# Altium schematic symbol library encoder.SchLib: 15 symbols
Pins are listed as number, name and electrical type; pins without a type are passive.

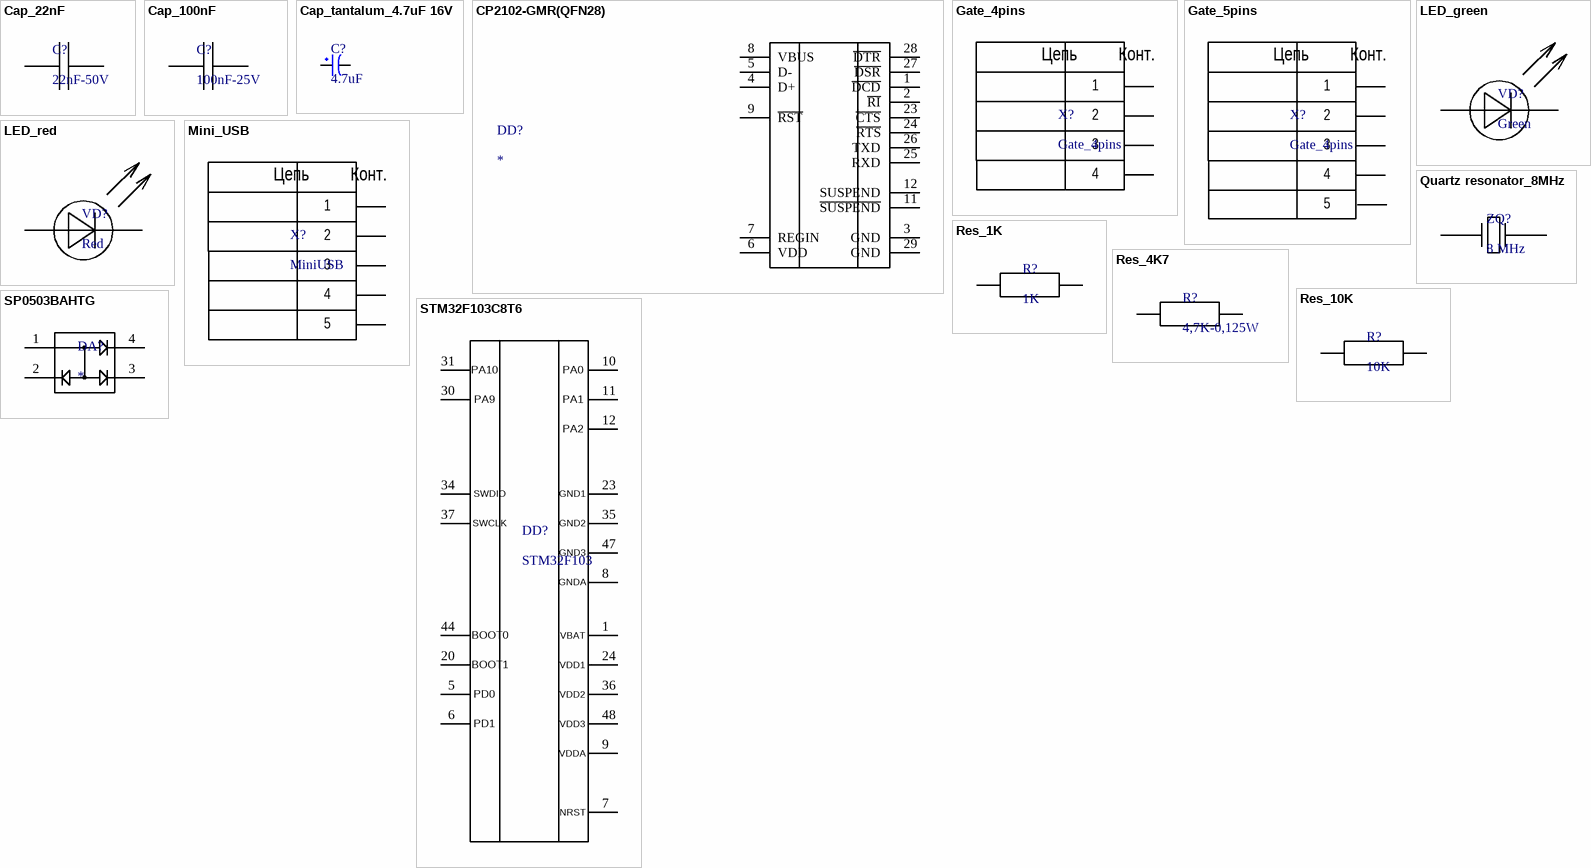
[diagram p0: symbols Cap_22nF to STM32F103C8T6]

## Cap_22nF
designator C?, comment 22nF-50V
footprint Cap Ceramic 0805 SMD (Reflow Soldering)
pins: 1, 2

## Cap_100nF
designator C?, comment 100nF-25V
footprint Cap Ceramic 0603 SMD (Reflow Soldering)
pins: 1, 2

## Cap_tantalum_4.7uF 16V
designator C?, comment 4.7uF
SMD; Chung_Loai: Dán; Don_Vi: Con; So_Chan: 2; Ten_Linh_Kien: Tụ tantalum 475C-4.7uF 16V SMD3216; Ma_Hang: MH008686; Kieu_Chan: *
footprint cap tantalum  smd a
pins: 1, 2

## CP2102-GMR(QFN28)
designator DD?
USB Bridge, USB to UART USB 2.0 UART; MP: CP2102-GMR; MF: Silicon; SnapEDA_Link: https://www.snapeda.com/parts/CP2102-GMR/Silicon%20Labs/view-part/570818/?ref=snap; Price: None; Availability: Unavailable; Value: *; Package: VFQFN-28 Vishay Siliconix
footprint QFN28G_0.5-5X5MM
pins: 1 ~{DCD} (power) "Data Carrier Detect control input (active low)", 2 ~{RI} (power) "Ring Indicator control input (active low)", 3 GND (power) "Ground", 4 D+ (power) "USB D+", 5 D- (power) "USB D-", 6 VDD (power) "3.0-3.6 V Power Supply Voltage Input. 3.3 V Voltage Regulator Output", 7 REGIN (power) "5 V Regulator Input. This pin is the input to the on-chip voltage regulator.", 8 VBUS (power) "VBUS Sense Input. This pin should be connected to the VBUS signal of a USB network. A 5 V signal on this pin indicates a USB network connection.", 9 ~{RST} (power) "Device Reset. Open-drain output of internal POR or VDD monitor. An external source can initiate a system reset by driving this pin low for at least 15 us.", 11 ~{SUSPEND} (power), 12 SUSPEND (power), 23 ~{CTS} (power) "Clear To Send control input (active low)", 24 ~{RTS} (power) "Ready to Send control output (active low)", 25 RXD (power) "Asynchronous data input (UART Receive)", 26 TXD (power) "Asynchronous data output (UART Transmit)", 27 ~{DSR} (power) "Data Set Ready control input (active low)", 28 ~{DTR} (power) "Data Terminal Ready control output (active low)", 29 GND (power) "Ground"

## Gate_4pins
designator X?
footprint Header_4 (Connector DIP, 4Pin_2.54mm)
pins: 1, 2, 3, 4
text: Цепь; Конт.

## Gate_5pins
designator X?, comment Gate_4pins
footprint Header_5 (Connector DIP, 4Pin_2.54mm)
pins: 1, 2, 3, 4, 5
text: Цепь; Конт.

## LED_green
designator VD?, comment Green
footprint Led 0805G (Chip LED; Green; Body 2.0 x 1.3 mm (LxW typ))
pins: 1, 2

## LED_red
designator VD?, comment Red
footprint Led 0805R (Chip LED; RED ; Body 2.0 x 1.3 mm (LxW typ))
pins: 1, 2

## Mini_USB
designator X?, comment MiniUSB
footprint USB_MNI_B (USB_MINI_B 9.2mmX7.75mm)
pins: 1, 2, 3, 4, 5
text: Цепь; Конт.

## Quartz resonator_8MHz
designator ZQ?, comment 8 MHz
footprint CRYSTAL-HC49S
pins: 1, 2

## Res_1K
designator R?, comment 1K
footprint Res 0805 SMD (Reflow Soldering)
pins: 1, 2

## Res_4K7
designator R?, comment 4,7K-0,125W
footprint Res 0805 SMD (Reflow Soldering)
pins: 1, 2

## Res_10K
designator R?, comment 10K
footprint Res 0805 SMD (Reflow Soldering)
pins: 1, 2

## SP0503BAHTG
designator DA?
MP: SP0503BAHTG; MF: Littelfuse Inc.; Package: SOT-143 Littelfuse; SnapEDA_Link: https://www.snapeda.com/parts/SP0503BAHTG/Littelfuse%20Inc./view-part/214427/?ref=snap; Digi-Key_Purchase_URL: https://www.digikey.com/product-detail/en/littelfuse-inc/SP0503BAHTG/F2715CT-ND/1154322?utm_source=snapeda&utm_medium=aggregator&utm_campaign=symbol; Value: *; Digi-Key_Part_Number: F2715CT-ND
footprint SOT143
pins: 1, 2, 3, 4

## STM32F103C8T6
designator DD?, comment STM32F103
footprint stm32f103c8t6-48LQFP (LQFP-48)
pins: 1, 5, 6, 7, 8, 9, 10, 11, 12, 20, 23, 24, 30, 31, 34, 35, 36, 37, 44, 47, 48
text: PA10; PA0; PA9; PA1; PA2; SWDIO; GND1; SWCLK; GND2; GND3; GNDA; BOOT0; VBAT; BOOT1; VDD1; PD0; VDD2; PD1; VDD3; VDDA; NRST